# Altium footprint library SMD Footprints.PcbLib: 21 footprints (part 1 of 2)
Each footprint in its own frame and in the unit in brackets; x right, y up, seen from the top. Pads: shape width x height; smd on the part's side, far side on the other; paste and mask are expansions set on the pad; w line width, h text height; cw(c..) or ccw(c..) is an arc to the next point about the centre after c.
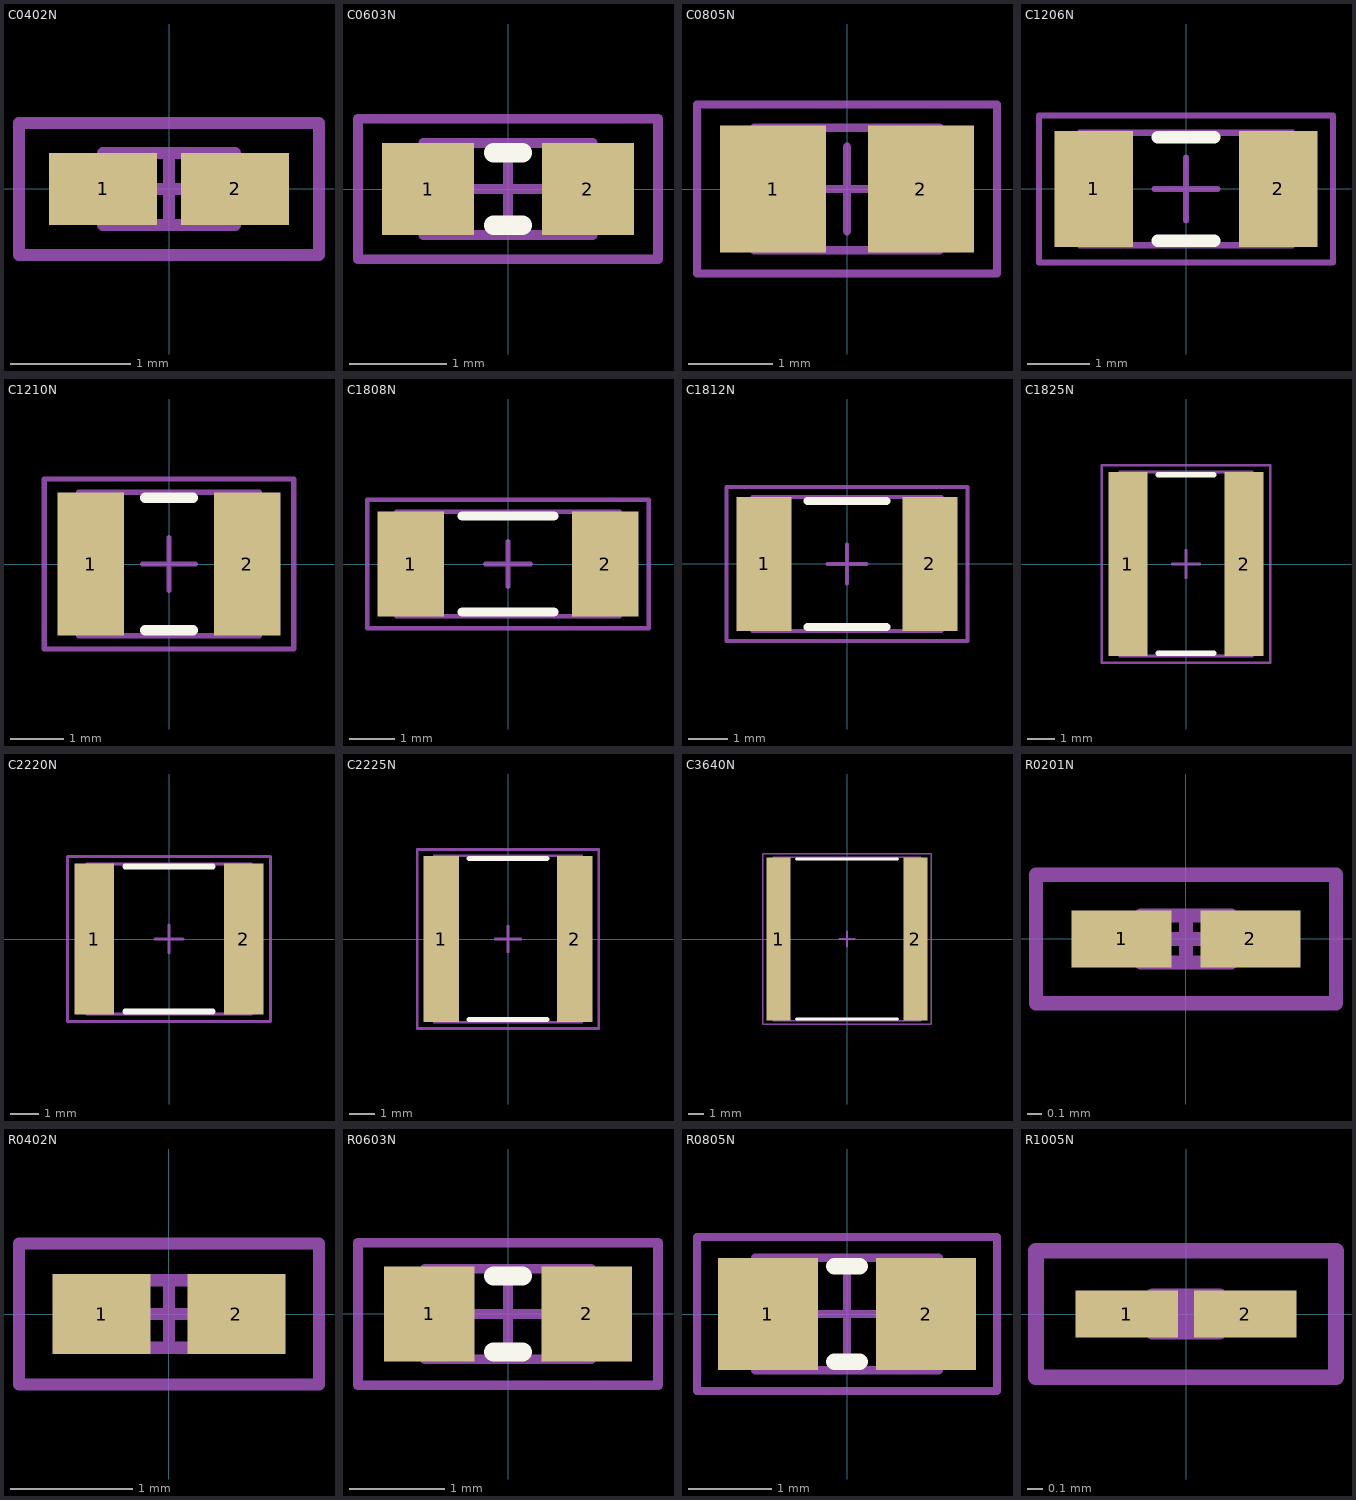
[diagram p0: the footprints below, top view; thin cyan lines are the x and y axes]

## C0402N [mm] "Chip Capacitor, 2-Leads, Body 1.0x0.5mm, IPC Medium Density"
height 0.6
pads (2):
  rect 0.9x0.6 smd: 1(-0.55,0) 2(0.55,0)
Mechanical 13:
  lines w0.1: -0.55,-0.3 0.55,-0.3 0.55,0.3 -0.55,0.3 -0.55,-0.3
Mechanical 15:
  lines w0.1: -0.3,0 0.3,0 ; 0,-0.3 0,0.3 ; -1.25,-0.55 1.25,-0.55 1.25,0.55 -1.25,0.55 -1.25,-0.55
3D body: height 0.6, standoff 0, extent -0.55,-0.3 0.55,0.3

## C0603N [mm] "Chip Capacitor, 2-Leads, Body 1.6x0.8mm, IPC Medium Density"
height 0.92
pads (2):
  rect 0.95x0.95 smd: 1(-0.825,0) 2(0.825,0)
Top Overlay:
  lines w0.2: -0.15,-0.375 0.15,-0.375 ; -0.15,0.375 0.15,0.375
Mechanical 13:
  lines w0.1: -0.875,-0.475 -0.875,0.475 0.875,0.475 0.875,-0.475 -0.875,-0.475
Mechanical 15:
  lines w0.1: -0.475,0 0.475,0 ; 0,-0.475 0,0.475 ; -1.55,-0.725 -1.55,0.725 1.55,0.725 1.55,-0.725 -1.55,-0.725
3D body: height 0.92, standoff 0, extent -0.875,-0.475 0.875,0.475

## C0805N [mm] "Chip Capacitor, 2-Leads, Body 2.0x1.3mm, IPC Medium Density"
height 1.45
pads (2):
  rect 1.25x1.5 smd: 1(-0.875,0) 2(0.875,0)
Mechanical 13:
  lines w0.1: -1.1,-0.725 -1.1,0.725 1.1,0.725 1.1,-0.725 -1.1,-0.725
Mechanical 15:
  lines w0.1: -0.5,0 0.5,0 ; 0,-0.5 0,0.5 ; -1.775,-1 -1.775,1 1.775,1 1.775,-1 -1.775,-1
3D body: height 1.45, standoff 0, extent -1.1,-0.725 1.1,0.725

## C1206N [mm] "Chip Capacitor, 2-Leads, Body 3.2x1.6mm, IPC Medium Density"
height 1.7
pads (2):
  rect 1.25x1.85 smd: 1(-1.475,0) 2(1.475,0)
Top Overlay:
  lines w0.2: -0.45,-0.825 0.45,-0.825 ; -0.45,0.825 0.45,0.825
Mechanical 13:
  lines w0.1: -1.7,-0.9 -1.7,0.9 1.7,0.9 1.7,-0.9 -1.7,-0.9
Mechanical 15:
  lines w0.1: -0.5,0 0.5,0 ; 0,-0.5 0,0.5 ; -2.35,-1.175 -2.35,1.175 2.35,1.175 2.35,-1.175 -2.35,-1.175
3D body: height 1.7, standoff 0, extent -1.7,-0.9 1.7,0.9

## C1210N [mm] "Chip Capacitor, 2-Leads, Body 3.2x2.5mm, IPC Medium Density"
height 1.7
pads (2):
  rect 1.25x2.7 smd: 1(-1.475,0) 2(1.475,0)
Top Overlay:
  lines w0.2: -0.45,-1.25 0.45,-1.25 ; -0.45,1.25 0.45,1.25
Mechanical 13:
  lines w0.1: -1.7,-1.35 -1.7,1.35 1.7,1.35 1.7,-1.35 -1.7,-1.35
Mechanical 15:
  lines w0.1: -0.5,0 0.5,0 ; 0,-0.5 0,0.5 ; -2.35,-1.6 -2.35,1.6 2.35,1.6 2.35,-1.6 -2.35,-1.6
3D body: height 1.7, standoff 0, extent -1.7,-1.35 1.7,1.35

## C1808N [mm] "Chip Capacitor, 2-Leads, Body 4.6x2.0mm, IPC Medium Density"
height 2.18
pads (2):
  rect 1.45x2.3 smd: 1(-2.125,0) 2(2.125,0)
Top Overlay:
  lines w0.2: -1,-1.05 1,-1.05 ; -1,1.05 1,1.05
Mechanical 13:
  lines w0.1: -2.435,-1.14 -2.435,1.14 2.435,1.14 2.435,-1.14 -2.435,-1.14
Mechanical 15:
  lines w0.1: -0.5,0 0.5,0 ; 0,-0.5 0,0.5 ; -3.075,-1.4 -3.075,1.4 3.075,1.4 3.075,-1.4 -3.075,-1.4
3D body: height 2.18, standoff 0, extent -2.435,-1.14 2.435,1.14

## C1812N [mm] "Chip Capacitor, 2-Leads, Body 4.5x3.2mm, IPC Medium Density"
height 2.18
pads (2):
  rect 1.4x3.4 smd: 1(-2.1,0) 2(2.1,0)
Top Overlay:
  lines w0.2: -1,-1.6 1,-1.6 ; -1,1.6 1,1.6
Mechanical 13:
  lines w0.1: -2.4,-1.7 -2.4,1.7 2.4,1.7 2.4,-1.7 -2.4,-1.7
Mechanical 15:
  lines w0.1: -0.5,0 0.5,0 ; 0,-0.5 0,0.5 ; -3.05,-1.95 -3.05,1.95 3.05,1.95 3.05,-1.95 -3.05,-1.95
3D body: height 2.18, standoff 0, extent -2.4,-1.7 2.4,1.7

## C1825N [mm] "Chip Capacitor, 2-Leads, Body 4.5x6.4mm, IPC Medium Density"
height 2.18
pads (2):
  rect 1.4x6.65 smd: 1(-2.1,0) 2(2.1,0)
Top Overlay:
  lines w0.2: -1,-3.225 1,-3.225 ; -1,3.225 1,3.225
Mechanical 13:
  lines w0.1: -2.4,-3.325 -2.4,3.325 2.4,3.325 2.4,-3.325 -2.4,-3.325
Mechanical 15:
  lines w0.1: -0.5,0 0.5,0 ; 0,-0.5 0,0.5 ; -3.05,-3.575 -3.05,3.575 3.05,3.575 3.05,-3.575 -3.05,-3.575
3D body: height 2.18, standoff 0, extent -2.4,-3.325 2.4,3.325

## C2220N [mm] "Chip Capacitor, 2-Leads, Body 5.6x5.1mm, IPC Medium Density"
height 2.18
pads (2):
  rect 1.4x5.35 smd: 1(-2.65,0) 2(2.65,0)
Top Overlay:
  lines w0.2: -1.55,-2.575 1.55,-2.575 ; -1.55,2.575 1.55,2.575
Mechanical 13:
  lines w0.1: -2.92,-2.665 2.92,-2.665 2.92,2.665 -2.92,2.665 -2.92,-2.665
Mechanical 15:
  lines w0.1: -0.5,0 0.5,0 ; 0,-0.5 0,0.5 ; -3.6,-2.925 3.6,-2.925 3.6,2.925 -3.6,2.925 -3.6,-2.925
3D body: height 2.18, standoff 0, extent -2.92,-2.665 2.92,2.665

## C2225N [mm] "Chip Capacitor, 2-Leads, Body 5.6x6.3mm, IPC Medium Density"
height 2.18
pads (2):
  rect 1.4x6.6 smd: 1(-2.65,0) 2(2.65,0)
Top Overlay:
  lines w0.2: -1.55,-3.2 1.55,-3.2 ; -1.55,3.2 1.55,3.2
Mechanical 13:
  lines w0.1: -2.92,-3.3 -2.92,3.3 2.92,3.3 2.92,-3.3 -2.92,-3.3
Mechanical 15:
  lines w0.1: -0.5,0 0.5,0 ; 0,-0.5 0,0.5 ; -3.6,-3.55 -3.6,3.55 3.6,3.55 3.6,-3.55 -3.6,-3.55
3D body: height 2.18, standoff 0, extent -2.92,-3.3 2.92,3.3

## C3640N [mm] "Chip Capacitor, 2-Leads, Body 9.1x10.2mm, IPC Medium Density"
height 2.18
pads (2):
  rect 1.55x10.55 smd: 1(-4.425,0) 2(4.425,0)
Top Overlay:
  lines w0.2: -3.25,-5.175 3.25,-5.175 ; -3.25,5.175 3.25,5.175
Mechanical 13:
  lines w0.1: -4.76,-5.29 4.76,-5.29 4.76,5.29 -4.76,5.29 -4.76,-5.29
Mechanical 15:
  lines w0.1: -0.5,0 0.5,0 ; 0,-0.5 0,0.5 ; -5.45,-5.525 5.45,-5.525 5.45,5.525 -5.45,5.525 -5.45,-5.525
3D body: height 2.18, standoff 0, extent -4.76,-5.29 4.76,5.29

## R0201N [mm] "Chip Resistor, 2-Leads, Body 0.6x0.3mm, IPC Medium Density"
height 0.26
pads (2):
  rect 0.7x0.4 smd: 1(-0.45,0) 2(0.45,0)
Mechanical 13:
  lines w0.1: -0.315,-0.165 0.315,-0.165 0.315,0.165 -0.315,0.165 -0.315,-0.165
Mechanical 15:
  lines w0.1: -0.165,0 0.165,0 ; 0,-0.165 0,0.165 ; -1.05,-0.45 1.05,-0.45 1.05,0.45 -1.05,0.45 -1.05,-0.45
3D body: height 0.26, standoff 0, extent -0.315,-0.165 0.315,0.165

## R0402N [mm] "Chip Resistor, 2-Leads, Body 1.0x0.5mm, IPC Medium Density"
height 0.4
pads (2):
  rect 0.8x0.65 smd: 1(-0.55,0) 2(0.55,0)
Mechanical 13:
  lines w0.1: -0.525,-0.275 0.525,-0.275 0.525,0.275 -0.525,0.275 -0.525,-0.275
Mechanical 15:
  lines w0.1: -0.275,0 0.275,0 ; 0,-0.275 0,0.275 ; -1.225,-0.575 1.225,-0.575 1.225,0.575 -1.225,0.575 -1.225,-0.575
3D body: height 0.4, standoff 0, extent -0.525,-0.275 0.525,0.275

## R0603N [mm] "Chip Resistor, 2-Leads, Body 1.6x0.8mm, IPC Medium Density"
height 0.55
pads (2):
  rect 0.95x1 smd: 1(-0.825,0) 2(0.825,0)
Top Overlay:
  lines w0.2: -0.15,-0.4 0.15,-0.4 ; -0.15,0.4 0.15,0.4
Mechanical 13:
  lines w0.1: -0.875,-0.475 -0.875,0.475 0.875,0.475 0.875,-0.475 -0.875,-0.475
Mechanical 15:
  lines w0.1: -0.475,0 0.475,0 ; 0,-0.475 0,0.475 ; -1.575,-0.75 -1.575,0.75 1.575,0.75 1.575,-0.75 -1.575,-0.75
3D body: height 0.55, standoff 0, extent -0.875,-0.475 0.875,0.475

## R0805N [mm] "Chip Resistor, 2-Leads, Body 2.0x1.3mm, IPC Medium Density"
height 0.7
pads (2):
  rect 1.2x1.35 smd: 1(-0.95,0) 2(0.95,0)
Top Overlay:
  lines w0.2: -0.15,-0.575 0.15,-0.575 ; -0.15,0.575 0.15,0.575
Mechanical 13:
  lines w0.1: -1.1,-0.675 1.1,-0.675 1.1,0.675 -1.1,0.675 -1.1,-0.675
Mechanical 15:
  lines w0.1: -0.5,0 0.5,0 ; 0,-0.5 0,0.5 ; -1.8,-0.925 1.8,-0.925 1.8,0.925 -1.8,0.925 -1.8,-0.925
3D body: height 0.7, standoff 0, extent -1.1,-0.675 1.1,0.675

## R1005N [mm] "Chip Resistor, 2-Leads, Body 0.4x0.2mm, IPC Medium Density"
height 0.15
pads (2):
  rect 0.65x0.3 smd: 1(-0.375,0) 2(0.375,0)
Mechanical 13:
  lines w0.1: -0.21,-0.11 -0.21,0.11 0.21,0.11 0.21,-0.11 -0.21,-0.11
Mechanical 15:
  lines w0.1: -0.11,0 0.11,0 ; 0,-0.11 0,0.11 ; -0.95,-0.4 -0.95,0.4 0.95,0.4 0.95,-0.4 -0.95,-0.4
3D body: height 0.15, standoff 0, extent -0.21,-0.11 0.21,0.11